# Altium schematic symbol library pin1x3.SchLib: 2 symbols
Pins are listed as number, name and electrical type; pins without a type are passive.

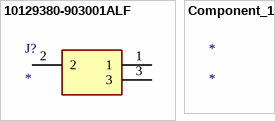
[diagram p0: symbols 10129380-903001ALF to Component_1]

## 10129380-903001ALF
designator J?
Connector; Manufacturer_Name: Amphenol; Manufacturer_Part_Number: 10129380-903001ALF; Datasheet Link: https://cdn.amphenol-icc.com/media/wysiwyg/files/documentation/datasheet/boardwiretoboard/bwb_econostik_254headers.pdf; Height: 9.85mm
footprint 10129380903001ALF
pins: 1, 2, 3

## Component_1
designator *